# Altium footprint library 5501-1LED.PcbLib: 1 footprints
Each footprint in its own frame and in the unit in brackets; x right, y up, seen from the top. Pads: shape width x height; smd on the part's side, far side on the other; paste and mask are expansions set on the pad; w line width, h text height; cw(c..) or ccw(c..) is an arc to the next point about the centre after c.
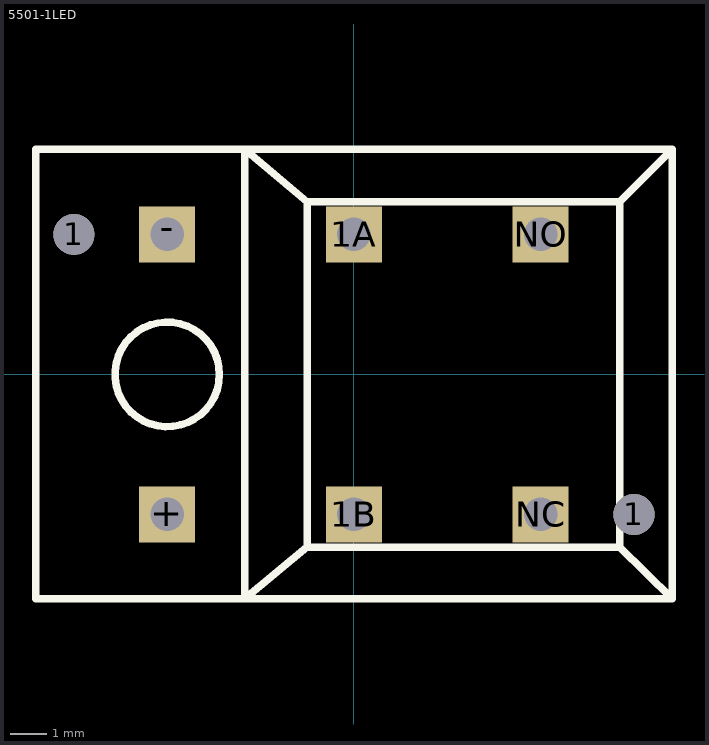
[diagram p0: the footprint, top view; thin cyan lines are the x and y axes]

## 5501-1LED [mil]
pads (8):
  round 44 hole 44: 1(-300,150) 1(300,-150)
  rect 60x60 hole 36: 1A(0,150) 1B(0,-150) +(-200,-150) -(-200,150) NC(200,-150) NO(200,150)
Top Overlay:
  circle w8: c-200,0 r56
  lines w8: -116.73,-240.16 -340.74,-240.16 -340.74,241 -116.73,241 ; -116.73,-240.16 341,-240.16 ; -116.73,-240.16 -116.73,241 ; -116.73,-240.16 -50,-185 ; -116.73,241 341,241 ; -116.73,241 -50,185 ; -50,-185 -50,185 ; -50,-185 285,-185 ; -50,185 285,185 ; 285,-185 341,-240.16 ; 285,-185 285,185 ; 285,185 341,241 ; 341,-240.16 341,241